# Altium schematic symbol library CL21A106KOQNNNG.SchLib: 1 symbol
Pins are listed as number, name and electrical type; pins without a type are passive.

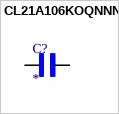
[diagram p0: symbol CL21A106KOQNNNG]

## CL21A106KOQNNNG
designator C?
MF: {'manufacturer': u'Samsung Electro-Mechanics'}; MP: CL21A106KOQNNNG; Package: None; Price: None; Value: *; Availability: Unavailable
footprint CAPC2012X140N
pins: 1, 2